# EAGLE library part MCP49X2 (library microchip-jlb)
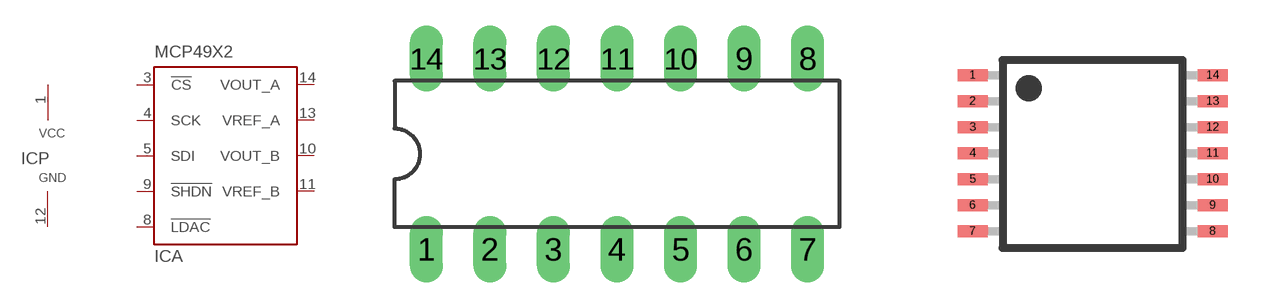
[diagram p1: symbol with the pads of DIL14; footprints DIL14, TSSOP14]

Designator prefix IC; gates A=SPI_DAC_2 P=PWRGND

## MCP49X2  [DIL14]
1  P:VCC  pwr
3  A:!CS  in
4  A:SCK  in
5  A:SDI
8  A:!LDAC  in
9  A:!SHDN  in
10  A:VOUT_B  out
11  A:VREF_B  in
12  P:GND  pwr
13  A:VREF_A  in
14  A:VOUT_A  out

## MCP49X2T  [TSSOP14]
Pads as for DIL14

## Footprint DIL14 (pad centres in mm)
Dual In Line Package
drill 0.813 long: 1 -7.62,-3.81; 2 -5.08,-3.81; 3 -2.54,-3.81; 4 0,-3.81; 5 2.54,-3.81; 6 5.08,-3.81; 7 7.62,-3.81; 8 7.62,3.81; 9 5.08,3.81; 10 2.54,3.81; 11 0,3.81; 12 -2.54,3.81; 13 -5.08,3.81; 14 -7.62,3.81

## Footprint TSSOP14 (pad centres in mm)
smd 0.75 x 0.3: 1 -3,1.972; 2 -3,1.323; 3 -3,0.672; 4 -3,0.022; 5 -3,-0.627; 6 -3,-1.278; 7 -3,-1.927; 8 3,-1.927; 9 3,-1.278; 10 3,-0.627; 11 3,0.022; 12 3,0.672; 13 3,1.323; 14 3,1.972